# Altium schematic symbol library POWER_SUPPLY.SchLib: 1 symbol
Pins are listed as number, name and electrical type; pins without a type are passive.

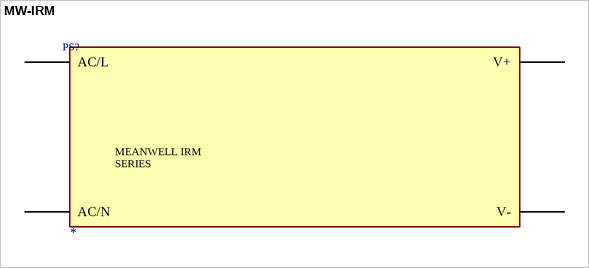
[diagram p0: symbol MW-IRM]

## MW-IRM
designator PS?
Manufacturer Part Number: *
pins: 1 AC/L, 2 AC/N, 3 V+, 4 V-
text: MEANWELL IRM / SERIES